# EAGLE library part HDR-08_ (library Chromation)
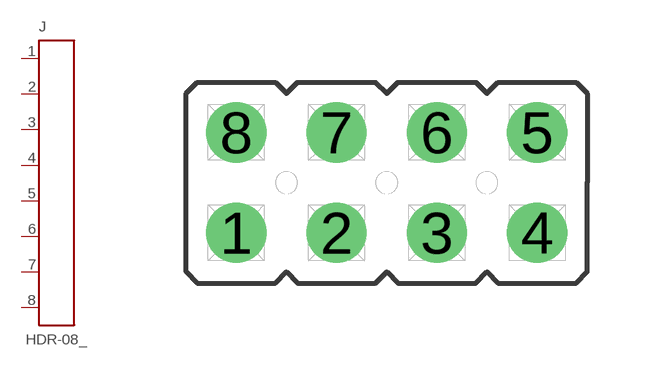
[diagram p14: symbol with the pads of FEMALE-HDR_3M_929852-01-04; footprint FEMALE-HDR_3M_929852-01-04]

Designator prefix J

## HDR-08_FEMALE_2.54_DUAL_V  [FEMALE-HDR_3M_929852-01-04]
1  PIN1
2  PIN2
3  PIN3
4  PIN4
5  PIN5
6  PIN6
7  PIN7
8  PIN8

## Footprint FEMALE-HDR_3M_929852-01-04 (pad centres in mm)
drill 1.016: 1 -3.81,-1.27; 2 -1.27,-1.27; 3 1.27,-1.27; 4 3.81,-1.27; 5 3.81,1.27; 6 1.27,1.27; 7 -1.27,1.27; 8 -3.81,1.27